# EAGLE library part AEDR-8300-K (library optocoupler)
Agilent AEDR-8300 Series Encoders Reflective Surface Mount Optical Encoder Source: http: http://www.avagotech.com .. AV02-0088EN-1.pdf
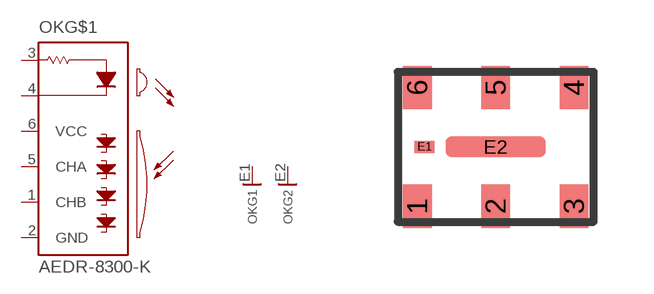
[diagram p42: symbol with the pads of AEDR-8300; footprint AEDR-8300]

Designator prefix OK; gates G$1=AEDR-8300 G1=GND G2=GND

## AEDR-8300-K/P/Q (MF: AGILENT TECHNOLOGIES; MPN: AEDR-8300-1P2; OC_FARNELL: 1161102; OC_NEWARK: 08J1020)  [AEDR-8300]
1  G$1:CHB  pas
2  G$1:GND  pas
3  G$1:A  pas
4  G$1:C  pas
5  G$1:CHA  pas
6  G$1:VCC  pas
E1  G1:GND  pwr
E2  G2:GND  pwr

## Footprint AEDR-8300 (pad centres in mm)
Agilent AEDR-8300 Series Encoders Reflective Surface Mount Optical Encoder Source: http: http://www.avagotech.com .. AV02-0088EN-1.pdf
smd 0.72 x 1.08: 1 -1.96,-1.485; 2 0,-1.485; 3 1.96,-1.485; 4 1.96,1.485; 5 0,1.485; 6 -1.96,1.485
smd 0.5 x 0.3: E1 -1.778,0
smd 2.5 x 0.5: E2 0,0